# EAGLE library part LMC6484 (library SolarJackets)
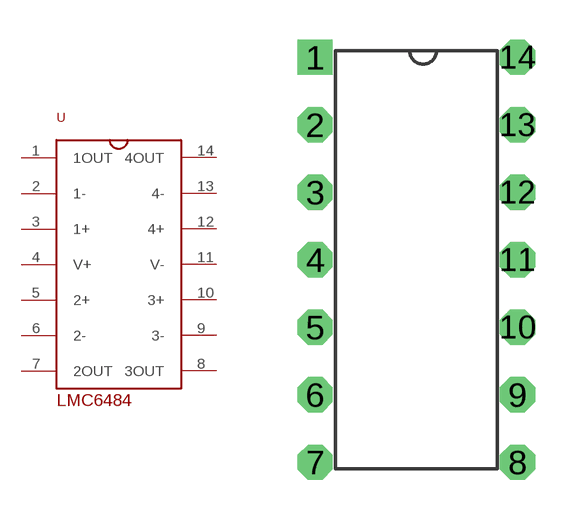
[diagram p2: symbol with the pads of LMC6484; footprint LMC6484]

Designator prefix -

## LMC6484  [LMC6484]
1  1OUT
2  1-
3  1+
4  V+
5  2+
6  2-
7  2OUT
8  3OUT
9  3-
10  3+
11  V-
12  4+
13  4-
14  4OUT

## Footprint LMC6484 (pad centres in mm)
drill 0.813 square: 1 -3.81,10.414
drill 0.813 octagon: 2 -3.81,7.874; 3 -3.81,5.334; 4 -3.81,2.794; 5 -3.81,0.254; 6 -3.81,-2.286; 7 -3.81,-4.826; 8 3.81,-4.826; 9 3.81,-2.286; 10 3.81,0.254; 11 3.81,2.794; 12 3.81,5.334; 13 3.81,7.874; 14 3.81,10.414